# EAGLE library part SMDPINHD2X18SIDE (library SquantorConnectors)
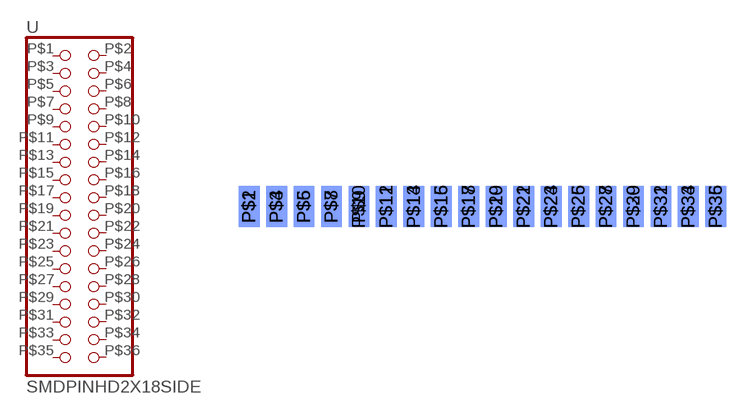
[diagram p5: symbol with the pads of SMDPINH2X18_SIDE; footprint SMDPINH2X18_SIDE]

Designator prefix -

## SMDPINHD2X18SIDE  [SMDPINH2X18_SIDE]
P$1  1  pas
P$2  2  pas
P$3  3  pas
P$4  4  pas
P$5  5  pas
P$6  6  pas
P$7  7  pas
P$8  8  pas
P$9  9  pas
P$10  10  pas
P$11  11  pas
P$12  12  pas
P$13  13  pas
P$14  14  pas
P$15  15  pas
P$16  16  pas
P$17  17  pas
P$18  18  pas
P$19  19  pas
P$20  20  pas
P$21  21  pas
P$22  22  pas
P$23  23  pas
P$24  24  pas
P$25  25  pas
P$26  26  pas
P$27  27  pas
P$28  28  pas
P$29  29  pas
P$30  30  pas
P$31  31  pas
P$32  32  pas
P$33  33  pas
P$34  34  pas
P$35  35  pas
P$36  36  pas

## Footprint SMDPINH2X18_SIDE (pad centres in mm)
2 by 18 header side mount
smd 1.93 x 3.81: P$1 -22.86,0; P$3 -20.32,0; P$5 -17.78,0; P$7 -15.24,0; P$9 -12.7,0; P$11 -10.16,0; P$13 -7.62,0; P$15 -5.08,0; P$17 -2.54,0; P$19 0,0; P$21 2.54,0; P$23 5.08,0; P$25 7.62,0; P$27 10.16,0; P$29 12.7,0; P$31 15.24,0; P$33 17.78,0; P$35 20.32,0
smd 1.93 x 3.81 bottom: P$2 -22.86,0; P$4 -20.32,0; P$6 -17.78,0; P$8 -15.24,0; P$10 -12.7,0; P$12 -10.16,0; P$14 -7.62,0; P$16 -5.08,0; P$18 -2.54,0; P$20 0,0; P$22 2.54,0; P$24 5.08,0; P$26 7.62,0; P$28 10.16,0; P$30 12.7,0; P$32 15.24,0; P$34 17.78,0; P$36 20.32,0